# Altium footprint library Connector_Molex.PcbLib: 815 footprints (part 40 of 51)
Each footprint in its own frame and in the unit in brackets; x right, y up, seen from the top. Pads: shape width x height; smd on the part's side, far side on the other; paste and mask are expansions set on the pad; w line width, h text height; cw(c..) or ccw(c..) is an arc to the next point about the centre after c.
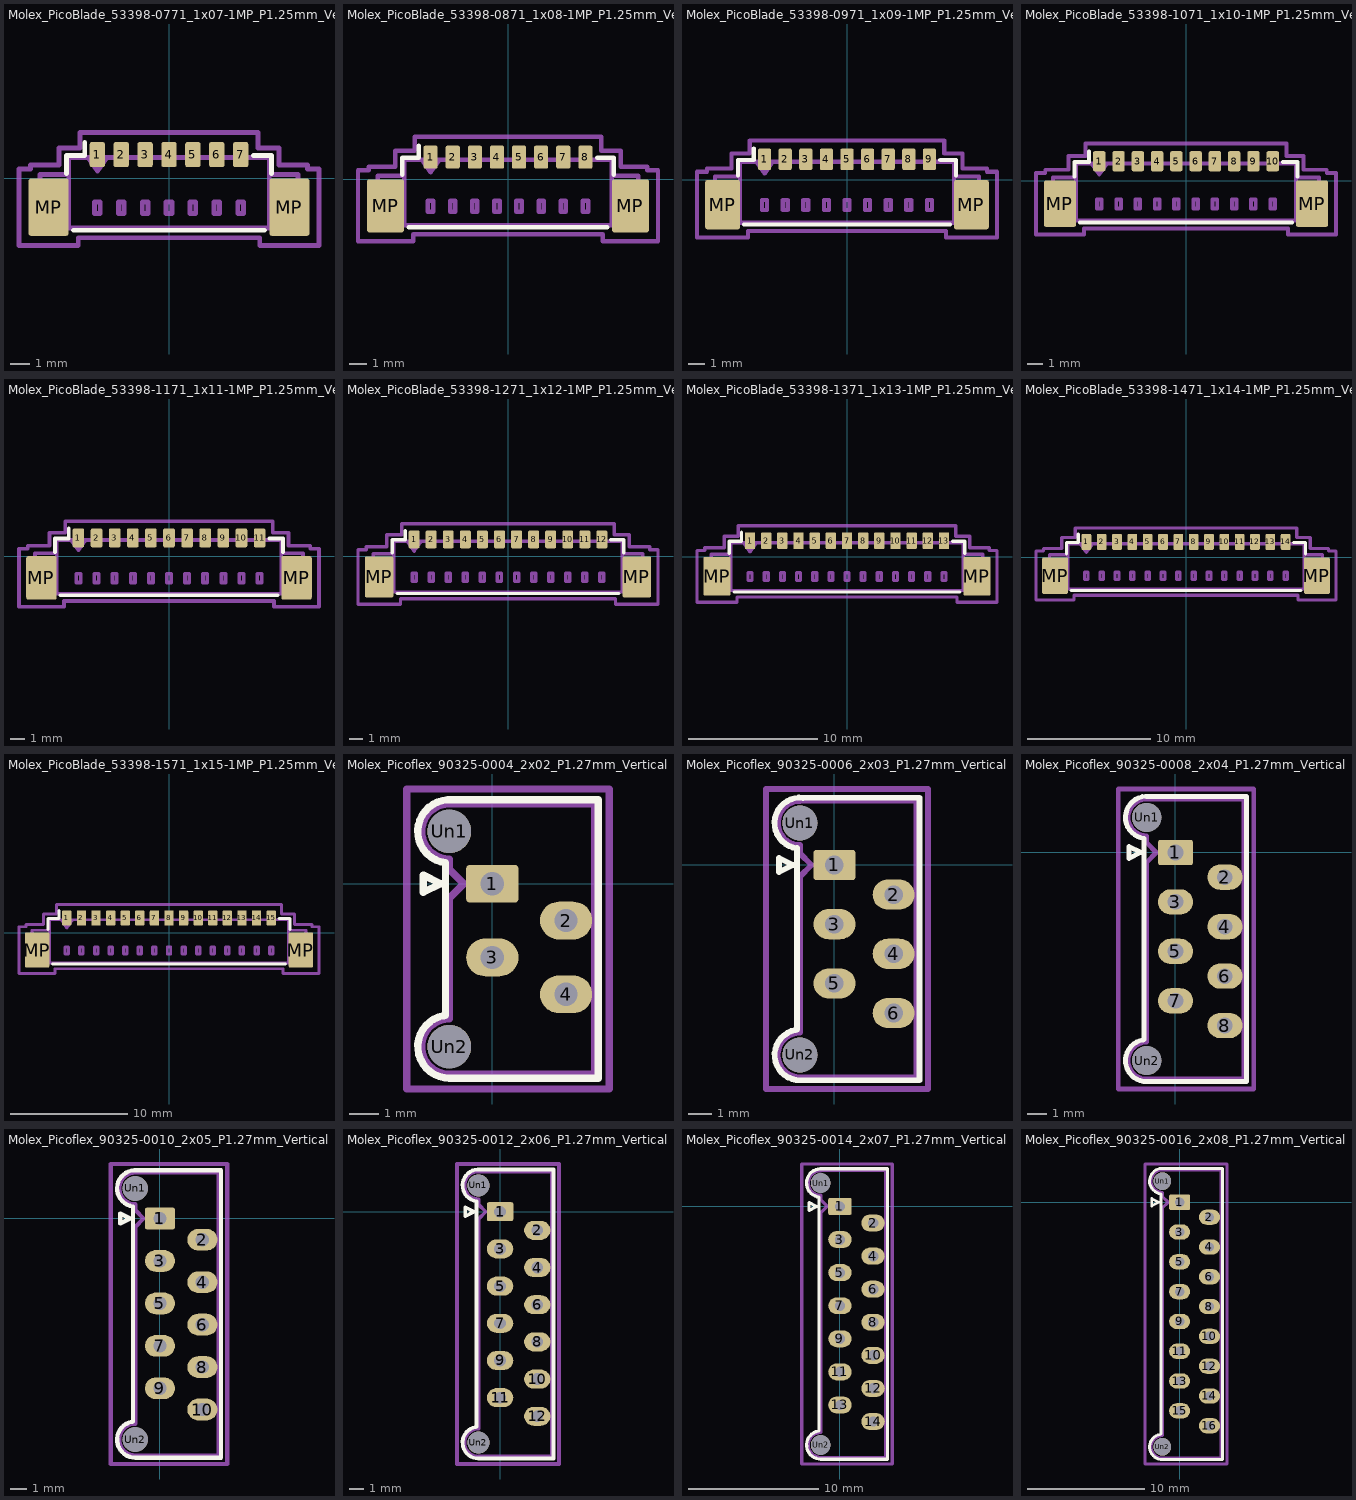
[diagram p39: the footprints below, top view; thin cyan lines are the x and y axes]

## Molex_PicoBlade_53398-0771_1x07-1MP_P1.25mm_Vertical [mm]
pads (9):
  rrect25% 0.8x1.3 smd: 1(-3.75,1.25) 2(-2.5,1.25) 3(-1.25,1.25) 4(0,1.25) 5(1.25,1.25) 6(2.5,1.25) 7(3.75,1.25)
  rrect12% 2.1x3 smd: MP(-6.3,-1.5) MP(6.3,-1.5)
F.SilkS:
  lines w0.254: -5.36,0.26 -5.36,1.21 -4.41,1.21 -4.41,1.9 ; -4.99,-2.71 4.99,-2.71 ; 4.41,1.21 5.36,1.21 5.36,0.26
Top Assembly:
  lines w0.254: -5.25,0.2 -6.75,0.2 -6.75,-0.4 -6.95,-0.6 -6.95,-2.4 -6.75,-2.6 -5.25,-2.6 ; -4.25,1.1 -3.75,0.393 -3.25,1.1 ; 5.25,0.2 6.75,0.2 6.75,-0.4 6.95,-0.6 6.95,-2.4 6.75,-2.6 5.25,-2.6 ; -5.25,-2.6 5.25,-2.6 ; -5.25,-2.6 -5.25,1.1 5.25,1.1 5.25,-2.6 ; -3.9,-1.825 -3.6,-1.825 -3.6,-1.225 -3.9,-1.225 -3.9,-1.825 ; -2.65,-1.825 -2.35,-1.825 -2.35,-1.225 -2.65,-1.225 -2.65,-1.825 ; -1.4,-1.825 -1.1,-1.825 -1.1,-1.225 -1.4,-1.225 -1.4,-1.825 ; -0.15,-1.825 0.15,-1.825 0.15,-1.225 -0.15,-1.225 -0.15,-1.825 ; 1.1,-1.825 1.4,-1.825 1.4,-1.225 1.1,-1.225 1.1,-1.825 ; 2.35,-1.825 2.65,-1.825 2.65,-1.225 2.35,-1.225 2.35,-1.825 ; 3.6,-1.825 3.9,-1.825 3.9,-1.225 3.6,-1.225 3.6,-1.825
  text "'.Designator'" at -4.047,-1.24 h1
Top Courtyard:
  lines w0.254: -7.85,-3.5 -4.75,-3.5 -4.75,-3.1 4.75,-3.1 4.75,-3.5 7.85,-3.5 7.85,0.5 7.25,0.5 7.25,0.7 5.75,0.7 5.75,1.6 4.65,1.6 4.65,2.4 -4.65,2.4 -4.65,1.6 -5.75,1.6 -5.75,0.7 -7.25,0.7 -7.25,0.5 -7.85,0.5 -7.85,-3.5
Top Designator:
  text ".Designator" at -7.618,-1.058 h1.52

## Molex_PicoBlade_53398-0871_1x08-1MP_P1.25mm_Vertical [mm]
pads (10):
  rrect25% 0.8x1.3 smd: 1(-4.375,1.25) 2(-3.125,1.25) 3(-1.875,1.25) 4(-0.625,1.25) 5(0.625,1.25) 6(1.875,1.25) 7(3.125,1.25) 8(4.375,1.25)
  rrect12% 2.1x3 smd: MP(-6.925,-1.5) MP(6.925,-1.5)
F.SilkS:
  lines w0.254: -5.985,0.26 -5.985,1.21 -5.035,1.21 -5.035,1.9 ; -5.615,-2.71 5.615,-2.71 ; 5.035,1.21 5.985,1.21 5.985,0.26
Top Assembly:
  lines w0.254: -5.875,0.2 -7.375,0.2 -7.375,-0.4 -7.575,-0.6 -7.575,-2.4 -7.375,-2.6 -5.875,-2.6 ; -4.875,1.1 -4.375,0.393 -3.875,1.1 ; 5.875,0.2 7.375,0.2 7.375,-0.4 7.575,-0.6 7.575,-2.4 7.375,-2.6 5.875,-2.6 ; -5.875,-2.6 5.875,-2.6 ; -5.875,-2.6 -5.875,1.1 5.875,1.1 5.875,-2.6 ; -4.525,-1.825 -4.225,-1.825 -4.225,-1.225 -4.525,-1.225 -4.525,-1.825 ; -3.275,-1.825 -2.975,-1.825 -2.975,-1.225 -3.275,-1.225 -3.275,-1.825 ; -2.025,-1.825 -1.725,-1.825 -1.725,-1.225 -2.025,-1.225 -2.025,-1.825 ; -0.775,-1.825 -0.475,-1.825 -0.475,-1.225 -0.775,-1.225 -0.775,-1.825 ; 0.475,-1.825 0.775,-1.825 0.775,-1.225 0.475,-1.225 0.475,-1.825 ; 1.725,-1.825 2.025,-1.825 2.025,-1.225 1.725,-1.225 1.725,-1.825 ; 2.975,-1.825 3.275,-1.825 3.275,-1.225 2.975,-1.225 2.975,-1.825 ; 4.225,-1.825 4.525,-1.825 4.525,-1.225 4.225,-1.225 4.225,-1.825
  text "'.Designator'" at -4.047,-1.24 h1
Top Courtyard:
  lines w0.254: -8.48,-3.5 -5.37,-3.5 -5.37,-3.1 5.37,-3.1 5.37,-3.5 8.48,-3.5 8.48,0.5 7.88,0.5 7.88,0.7 6.38,0.7 6.38,1.6 5.28,1.6 5.28,2.4 -5.28,2.4 -5.28,1.6 -6.38,1.6 -6.38,0.7 -7.88,0.7 -7.88,0.5 -8.48,0.5 -8.48,-3.5
Top Designator:
  text ".Designator" at -7.618,-1.058 h1.52

## Molex_PicoBlade_53398-0971_1x09-1MP_P1.25mm_Vertical [mm]
pads (11):
  rrect25% 0.8x1.3 smd: 1(-5,1.25) 2(-3.75,1.25) 3(-2.5,1.25) 4(-1.25,1.25) 5(0,1.25) 6(1.25,1.25) 7(2.5,1.25) 8(3.75,1.25) 9(5,1.25)
  rrect12% 2.1x3 smd: MP(-7.55,-1.5) MP(7.55,-1.5)
F.SilkS:
  lines w0.254: -6.61,0.26 -6.61,1.21 -5.66,1.21 -5.66,1.9 ; -6.24,-2.71 6.24,-2.71 ; 5.66,1.21 6.61,1.21 6.61,0.26
Top Assembly:
  lines w0.254: -6.5,0.2 -8,0.2 -8,-0.4 -8.2,-0.6 -8.2,-2.4 -8,-2.6 -6.5,-2.6 ; -5.5,1.1 -5,0.393 -4.5,1.1 ; 6.5,0.2 8,0.2 8,-0.4 8.2,-0.6 8.2,-2.4 8,-2.6 6.5,-2.6 ; -6.5,-2.6 6.5,-2.6 ; -6.5,-2.6 -6.5,1.1 6.5,1.1 6.5,-2.6 ; -5.15,-1.825 -4.85,-1.825 -4.85,-1.225 -5.15,-1.225 -5.15,-1.825 ; -3.9,-1.825 -3.6,-1.825 -3.6,-1.225 -3.9,-1.225 -3.9,-1.825 ; -2.65,-1.825 -2.35,-1.825 -2.35,-1.225 -2.65,-1.225 -2.65,-1.825 ; -1.4,-1.825 -1.1,-1.825 -1.1,-1.225 -1.4,-1.225 -1.4,-1.825 ; -0.15,-1.825 0.15,-1.825 0.15,-1.225 -0.15,-1.225 -0.15,-1.825 ; 1.1,-1.825 1.4,-1.825 1.4,-1.225 1.1,-1.225 1.1,-1.825 ; 2.35,-1.825 2.65,-1.825 2.65,-1.225 2.35,-1.225 2.35,-1.825 ; 3.6,-1.825 3.9,-1.825 3.9,-1.225 3.6,-1.225 3.6,-1.825 ; 4.85,-1.825 5.15,-1.825 5.15,-1.225 4.85,-1.225 4.85,-1.825
  text "'.Designator'" at -4.047,-1.24 h1
Top Courtyard:
  lines w0.254: -9.1,-3.5 -6,-3.5 -6,-3.1 6,-3.1 6,-3.5 9.1,-3.5 9.1,0.5 8.5,0.5 8.5,0.7 7,0.7 7,1.6 5.9,1.6 5.9,2.4 -5.9,2.4 -5.9,1.6 -7,1.6 -7,0.7 -8.5,0.7 -8.5,0.5 -9.1,0.5 -9.1,-3.5
Top Designator:
  text ".Designator" at -7.618,-1.058 h1.52

## Molex_PicoBlade_53398-1071_1x10-1MP_P1.25mm_Vertical [mm]
pads (12):
  rrect25% 0.8x1.3 smd: 1(-5.625,1.25) 2(-4.375,1.25) 3(-3.125,1.25) 4(-1.875,1.25) 5(-0.625,1.25) 6(0.625,1.25) 7(1.875,1.25) 8(3.125,1.25) 9(4.375,1.25) 10(5.625,1.25)
  rrect12% 2.1x3 smd: MP(-8.175,-1.5) MP(8.175,-1.5)
F.SilkS:
  lines w0.254: -7.235,0.26 -7.235,1.21 -6.285,1.21 -6.285,1.9 ; -6.865,-2.71 6.865,-2.71 ; 6.285,1.21 7.235,1.21 7.235,0.26
Top Assembly:
  lines w0.254: -7.125,0.2 -8.625,0.2 -8.625,-0.4 -8.825,-0.6 -8.825,-2.4 -8.625,-2.6 -7.125,-2.6 ; -6.125,1.1 -5.625,0.393 -5.125,1.1 ; 7.125,0.2 8.625,0.2 8.625,-0.4 8.825,-0.6 8.825,-2.4 8.625,-2.6 7.125,-2.6 ; -7.125,-2.6 7.125,-2.6 ; -7.125,-2.6 -7.125,1.1 7.125,1.1 7.125,-2.6 ; -5.775,-1.825 -5.475,-1.825 -5.475,-1.225 -5.775,-1.225 -5.775,-1.825 ; -4.525,-1.825 -4.225,-1.825 -4.225,-1.225 -4.525,-1.225 -4.525,-1.825 ; -3.275,-1.825 -2.975,-1.825 -2.975,-1.225 -3.275,-1.225 -3.275,-1.825 ; -2.025,-1.825 -1.725,-1.825 -1.725,-1.225 -2.025,-1.225 -2.025,-1.825 ; -0.775,-1.825 -0.475,-1.825 -0.475,-1.225 -0.775,-1.225 -0.775,-1.825 ; 0.475,-1.825 0.775,-1.825 0.775,-1.225 0.475,-1.225 0.475,-1.825 ; 1.725,-1.825 2.025,-1.825 2.025,-1.225 1.725,-1.225 1.725,-1.825 ; 2.975,-1.825 3.275,-1.825 3.275,-1.225 2.975,-1.225 2.975,-1.825 ; 4.225,-1.825 4.525,-1.825 4.525,-1.225 4.225,-1.225 4.225,-1.825 ; 5.475,-1.825 5.775,-1.825 5.775,-1.225 5.475,-1.225 5.475,-1.825
  text "'.Designator'" at -4.047,-1.24 h1
Top Courtyard:
  lines w0.254: -9.73,-3.5 -6.62,-3.5 -6.62,-3.1 6.62,-3.1 6.62,-3.5 9.73,-3.5 9.73,0.5 9.13,0.5 9.13,0.7 7.63,0.7 7.63,1.6 6.53,1.6 6.53,2.4 -6.53,2.4 -6.53,1.6 -7.63,1.6 -7.63,0.7 -9.13,0.7 -9.13,0.5 -9.73,0.5 -9.73,-3.5
Top Designator:
  text ".Designator" at -7.618,-1.058 h1.52

## Molex_PicoBlade_53398-1171_1x11-1MP_P1.25mm_Vertical [mm]
pads (13):
  rrect25% 0.8x1.3 smd: 1(-6.25,1.25) 2(-5,1.25) 3(-3.75,1.25) 4(-2.5,1.25) 5(-1.25,1.25) 6(0,1.25) 7(1.25,1.25) 8(2.5,1.25) 9(3.75,1.25) 10(5,1.25) 11(6.25,1.25)
  rrect12% 2.1x3 smd: MP(-8.8,-1.5) MP(8.8,-1.5)
F.SilkS:
  lines w0.254: -7.86,0.26 -7.86,1.21 -6.91,1.21 -6.91,1.9 ; -7.49,-2.71 7.49,-2.71 ; 6.91,1.21 7.86,1.21 7.86,0.26
Top Assembly:
  lines w0.254: -7.75,0.2 -9.25,0.2 -9.25,-0.4 -9.45,-0.6 -9.45,-2.4 -9.25,-2.6 -7.75,-2.6 ; -6.75,1.1 -6.25,0.393 -5.75,1.1 ; 7.75,0.2 9.25,0.2 9.25,-0.4 9.45,-0.6 9.45,-2.4 9.25,-2.6 7.75,-2.6 ; -7.75,-2.6 7.75,-2.6 ; -7.75,-2.6 -7.75,1.1 7.75,1.1 7.75,-2.6 ; -6.4,-1.825 -6.1,-1.825 -6.1,-1.225 -6.4,-1.225 -6.4,-1.825 ; -5.15,-1.825 -4.85,-1.825 -4.85,-1.225 -5.15,-1.225 -5.15,-1.825 ; -3.9,-1.825 -3.6,-1.825 -3.6,-1.225 -3.9,-1.225 -3.9,-1.825 ; -2.65,-1.825 -2.35,-1.825 -2.35,-1.225 -2.65,-1.225 -2.65,-1.825 ; -1.4,-1.825 -1.1,-1.825 -1.1,-1.225 -1.4,-1.225 -1.4,-1.825 ; -0.15,-1.825 0.15,-1.825 0.15,-1.225 -0.15,-1.225 -0.15,-1.825 ; 1.1,-1.825 1.4,-1.825 1.4,-1.225 1.1,-1.225 1.1,-1.825 ; 2.35,-1.825 2.65,-1.825 2.65,-1.225 2.35,-1.225 2.35,-1.825 ; 3.6,-1.825 3.9,-1.825 3.9,-1.225 3.6,-1.225 3.6,-1.825 ; 4.85,-1.825 5.15,-1.825 5.15,-1.225 4.85,-1.225 4.85,-1.825 ; 6.1,-1.825 6.4,-1.825 6.4,-1.225 6.1,-1.225 6.1,-1.825
  text "'.Designator'" at -4.047,-1.24 h1
Top Courtyard:
  lines w0.254: -10.35,-3.5 -7.25,-3.5 -7.25,-3.1 7.25,-3.1 7.25,-3.5 10.35,-3.5 10.35,0.5 9.75,0.5 9.75,0.7 8.25,0.7 8.25,1.6 7.15,1.6 7.15,2.4 -7.15,2.4 -7.15,1.6 -8.25,1.6 -8.25,0.7 -9.75,0.7 -9.75,0.5 -10.35,0.5 -10.35,-3.5
Top Designator:
  text ".Designator" at -7.618,-1.058 h1.52

## Molex_PicoBlade_53398-1271_1x12-1MP_P1.25mm_Vertical [mm]
pads (14):
  rrect25% 0.8x1.3 smd: 1(-6.875,1.25) 2(-5.625,1.25) 3(-4.375,1.25) 4(-3.125,1.25) 5(-1.875,1.25) 6(-0.625,1.25) 7(0.625,1.25) 8(1.875,1.25) 9(3.125,1.25) 10(4.375,1.25) 11(5.625,1.25) 12(6.875,1.25)
  rrect12% 2.1x3 smd: MP(-9.425,-1.5) MP(9.425,-1.5)
F.SilkS:
  lines w0.254: -8.485,0.26 -8.485,1.21 -7.535,1.21 -7.535,1.9 ; -8.115,-2.71 8.115,-2.71 ; 7.535,1.21 8.485,1.21 8.485,0.26
Top Assembly:
  lines w0.254: -8.375,0.2 -9.875,0.2 -9.875,-0.4 -10.075,-0.6 -10.075,-2.4 -9.875,-2.6 -8.375,-2.6 ; -7.375,1.1 -6.875,0.393 -6.375,1.1 ; 8.375,0.2 9.875,0.2 9.875,-0.4 10.075,-0.6 10.075,-2.4 9.875,-2.6 8.375,-2.6 ; -8.375,-2.6 8.375,-2.6 ; -8.375,-2.6 -8.375,1.1 8.375,1.1 8.375,-2.6 ; -7.025,-1.825 -6.725,-1.825 -6.725,-1.225 -7.025,-1.225 -7.025,-1.825 ; -5.775,-1.825 -5.475,-1.825 -5.475,-1.225 -5.775,-1.225 -5.775,-1.825 ; -4.525,-1.825 -4.225,-1.825 -4.225,-1.225 -4.525,-1.225 -4.525,-1.825 ; -3.275,-1.825 -2.975,-1.825 -2.975,-1.225 -3.275,-1.225 -3.275,-1.825 ; -2.025,-1.825 -1.725,-1.825 -1.725,-1.225 -2.025,-1.225 -2.025,-1.825 ; -0.775,-1.825 -0.475,-1.825 -0.475,-1.225 -0.775,-1.225 -0.775,-1.825 ; 0.475,-1.825 0.775,-1.825 0.775,-1.225 0.475,-1.225 0.475,-1.825 ; 1.725,-1.825 2.025,-1.825 2.025,-1.225 1.725,-1.225 1.725,-1.825 ; 2.975,-1.825 3.275,-1.825 3.275,-1.225 2.975,-1.225 2.975,-1.825 ; 4.225,-1.825 4.525,-1.825 4.525,-1.225 4.225,-1.225 4.225,-1.825 ; 5.475,-1.825 5.775,-1.825 5.775,-1.225 5.475,-1.225 5.475,-1.825 ; 6.725,-1.825 7.025,-1.825 7.025,-1.225 6.725,-1.225 6.725,-1.825
  text "'.Designator'" at -4.047,-1.24 h1
Top Courtyard:
  lines w0.254: -10.98,-3.5 -7.87,-3.5 -7.87,-3.1 7.87,-3.1 7.87,-3.5 10.98,-3.5 10.98,0.5 10.38,0.5 10.38,0.7 8.88,0.7 8.88,1.6 7.78,1.6 7.78,2.4 -7.78,2.4 -7.78,1.6 -8.88,1.6 -8.88,0.7 -10.38,0.7 -10.38,0.5 -10.98,0.5 -10.98,-3.5
Top Designator:
  text ".Designator" at -7.618,-1.058 h1.52

## Molex_PicoBlade_53398-1371_1x13-1MP_P1.25mm_Vertical [mm]
pads (15):
  rrect25% 0.8x1.3 smd: 1(-7.5,1.25) 2(-6.25,1.25) 3(-5,1.25) 4(-3.75,1.25) 5(-2.5,1.25) 6(-1.25,1.25) 7(0,1.25) 8(1.25,1.25) 9(2.5,1.25) 10(3.75,1.25) 11(5,1.25) 12(6.25,1.25) 13(7.5,1.25)
  rrect12% 2.1x3 smd: MP(-10.05,-1.5) MP(10.05,-1.5)
F.SilkS:
  lines w0.254: -9.11,0.26 -9.11,1.21 -8.16,1.21 -8.16,1.9 ; -8.74,-2.71 8.74,-2.71 ; 8.16,1.21 9.11,1.21 9.11,0.26
Top Assembly:
  lines w0.254: -9,0.2 -10.5,0.2 -10.5,-0.4 -10.7,-0.6 -10.7,-2.4 -10.5,-2.6 -9,-2.6 ; -8,1.1 -7.5,0.393 -7,1.1 ; 9,0.2 10.5,0.2 10.5,-0.4 10.7,-0.6 10.7,-2.4 10.5,-2.6 9,-2.6 ; -9,-2.6 9,-2.6 ; -9,-2.6 -9,1.1 9,1.1 9,-2.6 ; -7.65,-1.825 -7.35,-1.825 -7.35,-1.225 -7.65,-1.225 -7.65,-1.825 ; -6.4,-1.825 -6.1,-1.825 -6.1,-1.225 -6.4,-1.225 -6.4,-1.825 ; -5.15,-1.825 -4.85,-1.825 -4.85,-1.225 -5.15,-1.225 -5.15,-1.825 ; -3.9,-1.825 -3.6,-1.825 -3.6,-1.225 -3.9,-1.225 -3.9,-1.825 ; -2.65,-1.825 -2.35,-1.825 -2.35,-1.225 -2.65,-1.225 -2.65,-1.825 ; -1.4,-1.825 -1.1,-1.825 -1.1,-1.225 -1.4,-1.225 -1.4,-1.825 ; -0.15,-1.825 0.15,-1.825 0.15,-1.225 -0.15,-1.225 -0.15,-1.825 ; 1.1,-1.825 1.4,-1.825 1.4,-1.225 1.1,-1.225 1.1,-1.825 ; 2.35,-1.825 2.65,-1.825 2.65,-1.225 2.35,-1.225 2.35,-1.825 ; 3.6,-1.825 3.9,-1.825 3.9,-1.225 3.6,-1.225 3.6,-1.825 ; 4.85,-1.825 5.15,-1.825 5.15,-1.225 4.85,-1.225 4.85,-1.825 ; 6.1,-1.825 6.4,-1.825 6.4,-1.225 6.1,-1.225 6.1,-1.825 ; 7.35,-1.825 7.65,-1.825 7.65,-1.225 7.35,-1.225 7.35,-1.825
  text "'.Designator'" at -4.047,-1.24 h1
Top Courtyard:
  lines w0.254: -11.6,-3.5 -8.5,-3.5 -8.5,-3.1 8.5,-3.1 8.5,-3.5 11.6,-3.5 11.6,0.5 11,0.5 11,0.7 9.5,0.7 9.5,1.6 8.4,1.6 8.4,2.4 -8.4,2.4 -8.4,1.6 -9.5,1.6 -9.5,0.7 -11,0.7 -11,0.5 -11.6,0.5 -11.6,-3.5
Top Designator:
  text ".Designator" at -7.618,-1.058 h1.52

## Molex_PicoBlade_53398-1471_1x14-1MP_P1.25mm_Vertical [mm]
pads (16):
  rrect25% 0.8x1.3 smd: 1(-8.125,1.25) 2(-6.875,1.25) 3(-5.625,1.25) 4(-4.375,1.25) 5(-3.125,1.25) 6(-1.875,1.25) 7(-0.625,1.25) 8(0.625,1.25) 9(1.875,1.25) 10(3.125,1.25) 11(4.375,1.25) 12(5.625,1.25) 13(6.875,1.25) 14(8.125,1.25)
  rrect12% 2.1x3 smd: MP(-10.675,-1.5) MP(10.675,-1.5)
F.SilkS:
  lines w0.254: -9.735,0.26 -9.735,1.21 -8.785,1.21 -8.785,1.9 ; -9.365,-2.71 9.365,-2.71 ; 8.785,1.21 9.735,1.21 9.735,0.26
Top Assembly:
  lines w0.254: -9.625,0.2 -11.125,0.2 -11.125,-0.4 -11.325,-0.6 -11.325,-2.4 -11.125,-2.6 -9.625,-2.6 ; -8.625,1.1 -8.125,0.393 -7.625,1.1 ; 9.625,0.2 11.125,0.2 11.125,-0.4 11.325,-0.6 11.325,-2.4 11.125,-2.6 9.625,-2.6 ; -9.625,-2.6 9.625,-2.6 ; -9.625,-2.6 -9.625,1.1 9.625,1.1 9.625,-2.6 ; -8.275,-1.825 -7.975,-1.825 -7.975,-1.225 -8.275,-1.225 -8.275,-1.825 ; -7.025,-1.825 -6.725,-1.825 -6.725,-1.225 -7.025,-1.225 -7.025,-1.825 ; -5.775,-1.825 -5.475,-1.825 -5.475,-1.225 -5.775,-1.225 -5.775,-1.825 ; -4.525,-1.825 -4.225,-1.825 -4.225,-1.225 -4.525,-1.225 -4.525,-1.825 ; -3.275,-1.825 -2.975,-1.825 -2.975,-1.225 -3.275,-1.225 -3.275,-1.825 ; -2.025,-1.825 -1.725,-1.825 -1.725,-1.225 -2.025,-1.225 -2.025,-1.825 ; -0.775,-1.825 -0.475,-1.825 -0.475,-1.225 -0.775,-1.225 -0.775,-1.825 ; 0.475,-1.825 0.775,-1.825 0.775,-1.225 0.475,-1.225 0.475,-1.825 ; 1.725,-1.825 2.025,-1.825 2.025,-1.225 1.725,-1.225 1.725,-1.825 ; 2.975,-1.825 3.275,-1.825 3.275,-1.225 2.975,-1.225 2.975,-1.825 ; 4.225,-1.825 4.525,-1.825 4.525,-1.225 4.225,-1.225 4.225,-1.825 ; 5.475,-1.825 5.775,-1.825 5.775,-1.225 5.475,-1.225 5.475,-1.825 ; 6.725,-1.825 7.025,-1.825 7.025,-1.225 6.725,-1.225 6.725,-1.825 ; 7.975,-1.825 8.275,-1.825 8.275,-1.225 7.975,-1.225 7.975,-1.825
  text "'.Designator'" at -4.047,-1.24 h1
Top Courtyard:
  lines w0.254: -12.23,-3.5 -9.12,-3.5 -9.12,-3.1 9.12,-3.1 9.12,-3.5 12.23,-3.5 12.23,0.5 11.63,0.5 11.63,0.7 10.13,0.7 10.13,1.6 9.03,1.6 9.03,2.4 -9.03,2.4 -9.03,1.6 -10.13,1.6 -10.13,0.7 -11.63,0.7 -11.63,0.5 -12.23,0.5 -12.23,-3.5
Top Designator:
  text ".Designator" at -7.618,-1.058 h1.52

## Molex_PicoBlade_53398-1571_1x15-1MP_P1.25mm_Vertical [mm]
pads (17):
  rrect25% 0.8x1.3 smd: 1(-8.75,1.25) 2(-7.5,1.25) 3(-6.25,1.25) 4(-5,1.25) 5(-3.75,1.25) 6(-2.5,1.25) 7(-1.25,1.25) 8(0,1.25) 9(1.25,1.25) 10(2.5,1.25) 11(3.75,1.25) 12(5,1.25) 13(6.25,1.25) 14(7.5,1.25) 15(8.75,1.25)
  rrect12% 2.1x3 smd: MP(-11.3,-1.5) MP(11.3,-1.5)
F.SilkS:
  lines w0.254: -10.36,0.26 -10.36,1.21 -9.41,1.21 -9.41,1.9 ; -9.99,-2.71 9.99,-2.71 ; 9.41,1.21 10.36,1.21 10.36,0.26
Top Assembly:
  lines w0.254: -10.25,0.2 -11.75,0.2 -11.75,-0.4 -11.95,-0.6 -11.95,-2.4 -11.75,-2.6 -10.25,-2.6 ; -9.25,1.1 -8.75,0.393 -8.25,1.1 ; 10.25,0.2 11.75,0.2 11.75,-0.4 11.95,-0.6 11.95,-2.4 11.75,-2.6 10.25,-2.6 ; -10.25,-2.6 10.25,-2.6 ; -10.25,-2.6 -10.25,1.1 10.25,1.1 10.25,-2.6 ; -8.9,-1.825 -8.6,-1.825 -8.6,-1.225 -8.9,-1.225 -8.9,-1.825 ; -7.65,-1.825 -7.35,-1.825 -7.35,-1.225 -7.65,-1.225 -7.65,-1.825 ; -6.4,-1.825 -6.1,-1.825 -6.1,-1.225 -6.4,-1.225 -6.4,-1.825 ; -5.15,-1.825 -4.85,-1.825 -4.85,-1.225 -5.15,-1.225 -5.15,-1.825 ; -3.9,-1.825 -3.6,-1.825 -3.6,-1.225 -3.9,-1.225 -3.9,-1.825 ; -2.65,-1.825 -2.35,-1.825 -2.35,-1.225 -2.65,-1.225 -2.65,-1.825 ; -1.4,-1.825 -1.1,-1.825 -1.1,-1.225 -1.4,-1.225 -1.4,-1.825 ; -0.15,-1.825 0.15,-1.825 0.15,-1.225 -0.15,-1.225 -0.15,-1.825 ; 1.1,-1.825 1.4,-1.825 1.4,-1.225 1.1,-1.225 1.1,-1.825 ; 2.35,-1.825 2.65,-1.825 2.65,-1.225 2.35,-1.225 2.35,-1.825 ; 3.6,-1.825 3.9,-1.825 3.9,-1.225 3.6,-1.225 3.6,-1.825 ; 4.85,-1.825 5.15,-1.825 5.15,-1.225 4.85,-1.225 4.85,-1.825 ; 6.1,-1.825 6.4,-1.825 6.4,-1.225 6.1,-1.225 6.1,-1.825 ; 7.35,-1.825 7.65,-1.825 7.65,-1.225 7.35,-1.225 7.35,-1.825 ; 8.6,-1.825 8.9,-1.825 8.9,-1.225 8.6,-1.225 8.6,-1.825
  text "'.Designator'" at -4.047,-1.24 h1
Top Courtyard:
  lines w0.254: -12.85,-3.5 -9.75,-3.5 -9.75,-3.1 9.75,-3.1 9.75,-3.5 12.85,-3.5 12.85,0.5 12.25,0.5 12.25,0.7 10.75,0.7 10.75,1.6 9.65,1.6 9.65,2.4 -9.65,2.4 -9.65,1.6 -10.75,1.6 -10.75,0.7 -12.25,0.7 -12.25,0.5 -12.85,0.5 -12.85,-3.5
Top Designator:
  text ".Designator" at -7.618,-1.058 h1.52

## Molex_Picoflex_90325-0004_2x02_P1.27mm_Vertical [mm]
pads (6):
  rrect19% 1.8x1.3 hole 0.8: 1(0,0)
  rrect100% 1.8x1.3 hole 0.8: 2(2.54,-1.27) 3(0,-2.54) 4(2.54,-3.81)
  round 1.5 hole 1.5: Un1(-1.48,1.8) Un2(-1.48,-5.61)
F.SilkS:
  lines w0.254: -1.678,-4.543 ccw(c-1.48,-5.61) -1.47,-6.695 ; -1.61,-4.525 -1.61,0.715 ; -1.61,0.72 cw(c-1.48,1.8) -1.35,2.88 ; -1.48,-6.695 3.65,-6.695 3.65,2.885 -1.48,2.885 ; -2.38,-0.3 -1.78,0 -2.38,0.3 -2.38,-0.3
Top Assembly:
  lines w0.254: -1.48,0.845 -1.48,0.5 -0.98,0 -1.48,-0.5 -1.48,-4.655 ccw(c-1.48,-5.61) -1.48,-6.565 3.52,-6.565 3.52,2.755 -1.48,2.755 ; -1.48,0.85 cw(c-1.48,1.8) -1.48,2.75
  text "'.Designator'" at -3.027,1.21 h1
Top Courtyard:
  lines w0.254: -2.94,-7.07 4.02,-7.07 4.02,3.26 -2.94,3.26 -2.94,-7.07
Top Designator:
  text ".Designator" at -6.748,-2.413 h1.52

## Molex_Picoflex_90325-0006_2x03_P1.27mm_Vertical [mm]
pads (8):
  rrect19% 1.8x1.3 hole 0.8: 1(0,0)
  rrect100% 1.8x1.3 hole 0.8: 2(2.54,-1.27) 3(0,-2.54) 4(2.54,-3.81) 5(0,-5.08) 6(2.54,-6.35)
  round 1.5 hole 1.5: Un1(-1.48,1.8) Un2(-1.48,-8.15)
F.SilkS:
  lines w0.254: -1.678,-7.083 ccw(c-1.48,-8.15) -1.47,-9.235 ; -1.61,-7.065 -1.61,0.715 ; -1.61,0.72 cw(c-1.48,1.8) -1.35,2.88 ; -1.48,-9.235 3.65,-9.235 3.65,2.885 -1.48,2.885 ; -2.38,-0.3 -1.78,0 -2.38,0.3 -2.38,-0.3
Top Assembly:
  lines w0.254: -1.48,0.845 -1.48,0.5 -0.98,0 -1.48,-0.5 -1.48,-7.195 ccw(c-1.48,-8.15) -1.48,-9.105 3.52,-9.105 3.52,2.755 -1.48,2.755 ; -1.48,0.85 cw(c-1.48,1.8) -1.48,2.75
  text "'.Designator'" at -3.027,1.21 h1
Top Courtyard:
  lines w0.254: -2.94,-9.61 4.02,-9.61 4.02,3.26 -2.94,3.26 -2.94,-9.61
Top Designator:
  text ".Designator" at -6.748,-3.683 h1.52

## Molex_Picoflex_90325-0008_2x04_P1.27mm_Vertical [mm]
pads (10):
  rrect19% 1.8x1.3 hole 0.8: 1(0,0)
  rrect100% 1.8x1.3 hole 0.8: 2(2.54,-1.27) 3(0,-2.54) 4(2.54,-3.81) 5(0,-5.08) 6(2.54,-6.35) 7(0,-7.62) 8(2.54,-8.89)
  round 1.5 hole 1.5: Un1(-1.48,1.8) Un2(-1.48,-10.69)
F.SilkS:
  lines w0.254: -1.678,-9.623 ccw(c-1.48,-10.69) -1.47,-11.775 ; -1.61,-9.605 -1.61,0.715 ; -1.61,0.72 cw(c-1.48,1.8) -1.35,2.88 ; -1.48,-11.775 3.65,-11.775 3.65,2.885 -1.48,2.885 ; -2.38,-0.3 -1.78,0 -2.38,0.3 -2.38,-0.3
Top Assembly:
  lines w0.254: -1.48,0.845 -1.48,0.5 -0.98,0 -1.48,-0.5 -1.48,-9.735 ccw(c-1.48,-10.69) -1.48,-11.645 3.52,-11.645 3.52,2.755 -1.48,2.755 ; -1.48,0.85 cw(c-1.48,1.8) -1.48,2.75
  text "'.Designator'" at -3.027,1.21 h1
Top Courtyard:
  lines w0.254: -2.94,-12.15 4.02,-12.15 4.02,3.26 -2.94,3.26 -2.94,-12.15
Top Designator:
  text ".Designator" at -6.748,-4.953 h1.52

## Molex_Picoflex_90325-0010_2x05_P1.27mm_Vertical [mm]
pads (12):
  rrect19% 1.8x1.3 hole 0.8: 1(0,0)
  rrect100% 1.8x1.3 hole 0.8: 2(2.54,-1.27) 3(0,-2.54) 4(2.54,-3.81) 5(0,-5.08) 6(2.54,-6.35) 7(0,-7.62) 8(2.54,-8.89) 9(0,-10.16) 10(2.54,-11.43)
  round 1.5 hole 1.5: Un1(-1.48,1.8) Un2(-1.48,-13.23)
F.SilkS:
  lines w0.254: -1.678,-12.163 ccw(c-1.48,-13.23) -1.47,-14.315 ; -1.61,-12.145 -1.61,0.715 ; -1.61,0.72 cw(c-1.48,1.8) -1.35,2.88 ; -1.48,-14.315 3.65,-14.315 3.65,2.885 -1.48,2.885 ; -2.38,-0.3 -1.78,0 -2.38,0.3 -2.38,-0.3
Top Assembly:
  lines w0.254: -1.48,0.845 -1.48,0.5 -0.98,0 -1.48,-0.5 -1.48,-12.275 ccw(c-1.48,-13.23) -1.48,-14.185 3.52,-14.185 3.52,2.755 -1.48,2.755 ; -1.48,0.85 cw(c-1.48,1.8) -1.48,2.75
  text "'.Designator'" at -3.027,1.21 h1
Top Courtyard:
  lines w0.254: -2.94,-14.69 4.02,-14.69 4.02,3.26 -2.94,3.26 -2.94,-14.69
Top Designator:
  text ".Designator" at -6.748,-6.223 h1.52

## Molex_Picoflex_90325-0012_2x06_P1.27mm_Vertical [mm]
pads (14):
  rrect19% 1.8x1.3 hole 0.8: 1(0,0)
  rrect100% 1.8x1.3 hole 0.8: 2(2.54,-1.27) 3(0,-2.54) 4(2.54,-3.81) 5(0,-5.08) 6(2.54,-6.35) 7(0,-7.62) 8(2.54,-8.89) 9(0,-10.16) 10(2.54,-11.43) 11(0,-12.7) 12(2.54,-13.97)
  round 1.5 hole 1.5: Un1(-1.48,1.8) Un2(-1.48,-15.77)
F.SilkS:
  lines w0.254: -1.678,-14.703 ccw(c-1.48,-15.77) -1.47,-16.855 ; -1.61,-14.685 -1.61,0.715 ; -1.61,0.72 cw(c-1.48,1.8) -1.35,2.88 ; -1.48,-16.855 3.65,-16.855 3.65,2.885 -1.48,2.885 ; -2.38,-0.3 -1.78,0 -2.38,0.3 -2.38,-0.3
Top Assembly:
  lines w0.254: -1.48,0.845 -1.48,0.5 -0.98,0 -1.48,-0.5 -1.48,-14.815 ccw(c-1.48,-15.77) -1.48,-16.725 3.52,-16.725 3.52,2.755 -1.48,2.755 ; -1.48,0.85 cw(c-1.48,1.8) -1.48,2.75
  text "'.Designator'" at -3.027,1.21 h1
Top Courtyard:
  lines w0.254: -2.94,-17.23 4.02,-17.23 4.02,3.26 -2.94,3.26 -2.94,-17.23
Top Designator:
  text ".Designator" at -6.748,-7.493 h1.52

## Molex_Picoflex_90325-0014_2x07_P1.27mm_Vertical [mm]
pads (16):
  rrect19% 1.8x1.3 hole 0.8: 1(0,0)
  rrect100% 1.8x1.3 hole 0.8: 2(2.54,-1.27) 3(0,-2.54) 4(2.54,-3.81) 5(0,-5.08) 6(2.54,-6.35) 7(0,-7.62) 8(2.54,-8.89) 9(0,-10.16) 10(2.54,-11.43) 11(0,-12.7) 12(2.54,-13.97) 13(0,-15.24) 14(2.54,-16.51)
  round 1.5 hole 1.5: Un1(-1.48,1.8) Un2(-1.48,-18.31)
F.SilkS:
  lines w0.254: -1.678,-17.243 ccw(c-1.48,-18.31) -1.47,-19.395 ; -1.61,-17.225 -1.61,0.715 ; -1.61,0.72 cw(c-1.48,1.8) -1.35,2.88 ; -1.48,-19.395 3.65,-19.395 3.65,2.885 -1.48,2.885 ; -2.38,-0.3 -1.78,0 -2.38,0.3 -2.38,-0.3
Top Assembly:
  lines w0.254: -1.48,0.845 -1.48,0.5 -0.98,0 -1.48,-0.5 -1.48,-17.355 ccw(c-1.48,-18.31) -1.48,-19.265 3.52,-19.265 3.52,2.755 -1.48,2.755 ; -1.48,0.85 cw(c-1.48,1.8) -1.48,2.75
  text "'.Designator'" at -3.027,1.21 h1
Top Courtyard:
  lines w0.254: -2.94,-19.77 4.02,-19.77 4.02,3.26 -2.94,3.26 -2.94,-19.77
Top Designator:
  text ".Designator" at -6.748,-8.763 h1.52

## Molex_Picoflex_90325-0016_2x08_P1.27mm_Vertical [mm]
pads (18):
  rrect19% 1.8x1.3 hole 0.8: 1(0,0)
  rrect100% 1.8x1.3 hole 0.8: 2(2.54,-1.27) 3(0,-2.54) 4(2.54,-3.81) 5(0,-5.08) 6(2.54,-6.35) 7(0,-7.62) 8(2.54,-8.89) 9(0,-10.16) 10(2.54,-11.43) 11(0,-12.7) 12(2.54,-13.97) 13(0,-15.24) 14(2.54,-16.51) 15(0,-17.78) 16(2.54,-19.05)
  round 1.5 hole 1.5: Un1(-1.48,1.8) Un2(-1.48,-20.85)
F.SilkS:
  lines w0.254: -1.678,-19.783 ccw(c-1.48,-20.85) -1.47,-21.935 ; -1.61,-19.765 -1.61,0.715 ; -1.61,0.72 cw(c-1.48,1.8) -1.35,2.88 ; -1.48,-21.935 3.65,-21.935 3.65,2.885 -1.48,2.885 ; -2.38,-0.3 -1.78,0 -2.38,0.3 -2.38,-0.3
Top Assembly:
  lines w0.254: -1.48,0.845 -1.48,0.5 -0.98,0 -1.48,-0.5 -1.48,-19.895 ccw(c-1.48,-20.85) -1.48,-21.805 3.52,-21.805 3.52,2.755 -1.48,2.755 ; -1.48,0.85 cw(c-1.48,1.8) -1.48,2.75
  text "'.Designator'" at -3.027,1.21 h1
Top Courtyard:
  lines w0.254: -2.94,-22.31 4.02,-22.31 4.02,3.26 -2.94,3.26 -2.94,-22.31
Top Designator:
  text ".Designator" at -6.748,-10.033 h1.52